# Altium schematic symbol library MCU_Generico.SchLib: 1 symbol
Pins are listed as number, name and electrical type; pins without a type are passive.

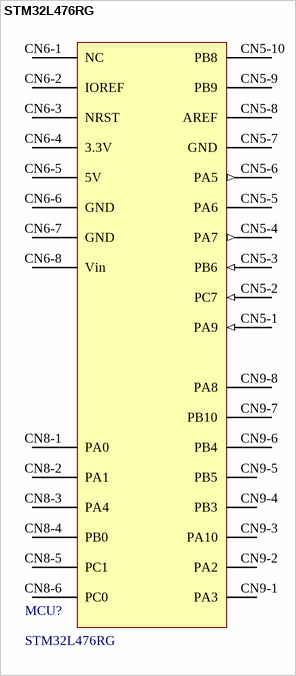
[diagram p0: symbol STM32L476RG]

## STM32L476RG
designator MCU?
Development Board, STM32L476RG MCU, On-Board STLINK/V2-1, Arduino & ST Morpho Connectivity; Manufacturer: STMicroelectronics; Manufacturer Part Number: NUCLEO-L476RG; Core Architecture: ARM; Evaluation Kit: Yes; Number of Bits: 32; Supplier: Avnet; Supplier Part Number: 55Y3536; RoHS: Compliant; Category: DSPs - Digital Signal Processors; Stock: 227; Pricing: 1=19,83 (USD); Lead Free: Lead Free; Lifecycle Status: Production; REACH SVHC: No; Schedule B: 8473300002|8473300002|8473300002|8473300002|8473300002; ComponentLink1URL: https://datasheet.octopart.com:443/NUCLEO-L476RG-STMicroelectronics-datasheet-44363362.pdf?src-supplier=STMicroelectronics; ComponentLink1Description: https://datasheet.octopart.com:443/NUCLEO-L476RG-STMicroelectronics-datasheet-44363362.pdf?src-supplier=STMicroelectronics; ComponentLink2URL: https://datasheet.octopart.com:443/NUCLEO-L476RG-STMicroelectronics-datasheet-22171324.pdf?src-supplier=STMicroelectronics; ComponentLink2Description: https://datasheet.octopart.com:443/NUCLEO-L476RG-STMicroelectronics-datasheet-22171324.pdf?src-supplier=STMicroelectronics; ComponentLink3URL: https://datasheet.octopart.com:443/NUCLEO-L476RG-STMicroelectronics-datasheet-78838620.pdf?src-supplier=Farnell; ComponentLink3Description: https://datasheet.octopart.com:443/NUCLEO-L476RG-STMicroelectronics-datasheet-78838620.pdf?src-supplier=Farnell; ComponentLink4URL: https://datasheet.octopart.com:443/NUCLEO-L476RG-STMicroelectronics-datasheet-116606905.pdf?src-supplier=ODG+(Origin+Data+Global); ComponentLink4Description: https://datasheet.octopart.com:443/NUCLEO-L476RG-STMicroelectronics-datasheet-116606905.pdf?src-supplier=ODG+(Origin+Data+Global); ComponentLink5URL: https://datasheet.octopart.com:443/NUCLEO-L476RG-STMicroelectronics-datasheet-37114749.pdf?src-supplier=TME; ComponentLink5Description: https://datasheet.octopart.com:443/NUCLEO-L476RG-STMicroelectronics-datasheet-37114749.pdf?src-supplier=TME; Supplier 1: DigiKey; Supplier Part Number 1: 497-15881-ND
footprint Nucleo_Card
pins: CN5-1 PA9 (in), CN5-2 PC7 (in), CN5-3 PB6 (in), CN5-4 PA7 (out), CN5-5 PA6, CN5-6 PA5 (out), CN5-7 GND (power), CN5-8 AREF, CN5-9 PB9, CN5-10 PB8, CN6-1 NC, CN6-2 IOREF, CN6-3 NRST, CN6-4 3.3V (power), CN6-5 5V (power), CN6-6 GND (power), CN6-7 GND (power), CN6-8 Vin, CN8-1 PA0, CN8-2 PA1, CN8-3 PA4, CN8-4 PB0, CN8-5 PC1, CN8-6 PC0, CN9-1 PA3, CN9-2 PA2, CN9-3 PA10, CN9-4 PB3, CN9-5 PB5, CN9-6 PB4, CN9-7 PB10, CN9-8 PA8